# EAGLE library part LTC3459 (library PowerProducts)
LT-Spice library generated with : ltspice.ulp from: D:/Program Files (x86)/LTC/LTspiceIV/lib/sym/PowerProducts/LTC3490*.asy at 07.10.2012 18:10:42
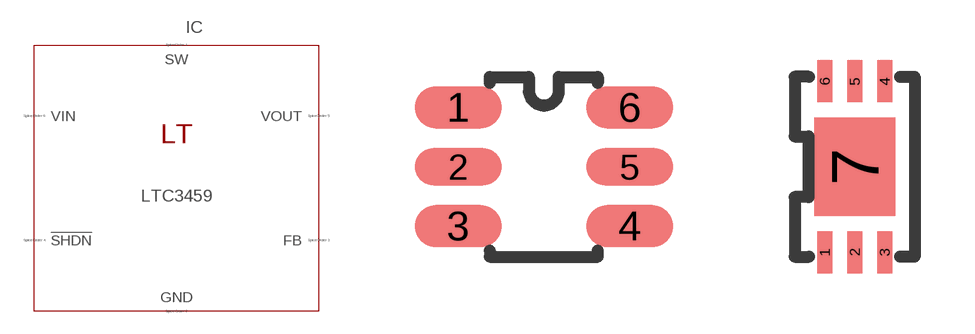
[diagram p194: symbol with the pads of SOT6(S6); footprints SOT6(S6), DFN6(DCB)]

Designator prefix IC

## LTC3459S6 (SPICEMODEL: LTC3459.sub; SPICEPREFIX: X; VALUE2: LTC3459)  [SOT6(S6)]
1  SW  pas
2  GND  pas
3  FB  pas
4  !SHDN  pas
5  VOUT  pas
6  VIN  pas

## LTC3459DCB (SPICEMODEL: LTC3459.sub; SPICEPREFIX: X; VALUE2: LTC3459)  [DFN6(DCB)]
1  !SHDN  pas
2  VOUT  pas
3  FB  pas
4  SW  pas
5  GND  pas
6  VIN  pas
7  GND  pas

## LTC3459 (SPICEMODEL: LTC3459.sub; SPICEPREFIX: X; VALUE2: LTC3459)  [DFN6(DC)]
1  VIN  pas
2  VOUT  pas
3  !SHDN  pas
4  FB  pas
5  GND  pas
6  SW  pas
7  GND  pas

## Footprint SOT6(S6) (pad centres in mm)
Package generated from: SOT6(S6).asc (!PADS-POWERPCB-V9.3-BASIC! DESIGN DATABASE ASCII FILE 1.0) with :import-pads-powerpcb-v5.ulp Version 1.0.1 at 04.10.2012 14:11:36
smd 2.175 x 1.05: 1 -2.145,1.485; 3 -2.145,-1.485; 4 2.145,-1.485; 6 2.145,1.485
smd 2.175 x 0.93: 2 -2.145,0; 5 2.145,0

## Footprint DFN6(DCB) (pad centres in mm)
Package generated from: DFN6(DCB).asc (!PADS-POWERPCB-V5.0-BASIC! DESIGN DATABASE ASCII FILE 1.0) with :import-pads-powerpcb-v5.ulp Version 1.0.1 at 04.10.2012 14:11:17
smd 0.375 x 1.05: 1 -0.75,-2.138; 2 0,-2.138; 3 0.75,-2.138; 4 0.75,2.138; 5 0,2.138; 6 -0.75,2.138
smd 2.025 x 2.475: 7 0,0

## Footprint DFN6(DC) (pad centres in mm)
Package generated from: DFN6(DC).asc (!PADS-POWERPCB-V5.0-BASIC! DESIGN DATABASE ASCII FILE 1.0) with :import-pads-powerpcb-v5.ulp Version 1.0.1 at 04.10.2012 14:11:17
smd 0.375 x 1.012: 1 -0.75,-1.369; 2 0,-1.369; 3 0.75,-1.369; 4 0.75,1.369; 5 0,1.369; 6 -0.75,1.369
smd 2.13 x 0.915: 7 0,0